# EAGLE library part MCP47CVB*2 (library bschulz)
MCP47CVBx2 - 8/10/12 Bit, Dual Channel, Digital to Analog Converter Characteristics: VCC: 1.8~5.5V IQ: 500μA (On), 0.65μA (Shutdown) Operating Temperature: -40°C to 125°C Number of Outputs: 2 Settling Time: 16μs Number of Bits: 8 (MCP47CVB02), 10 (MCP47CVB12), 12 (MCP47CVB22) Digikey: MCP47CVB22-E/MF-ND (MCP47CVB22, DFN) <https://www.digikey.com/product-detail/en/microchip-technology/MCP47CVB22-E-MF/MCP47CVB22-E-MF-ND/9657690> MCP47CVB22-E/UN-ND (MCP47CVB22, MSOP) <https://www.digikey.com/product-detail/en/microchip-technology/MCP47CVB22-E-UN/MCP47CVB22-E-UN-ND/9657693>
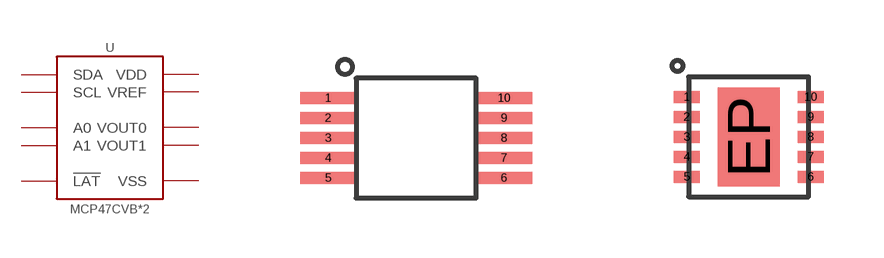
[diagram p89: symbol with the pads of MSOP_10; footprints MSOP_10, DFN_10_3X3]

Designator prefix U

## MCP47CVB2MSOP, MCP47CVB02MSOP, MCP47CVB12MSOP, MCP47CVB22MSOP (DIGIKEY: MCP47CVB22-E/UN-ND; MF: Microchip; MPN: MCP47CVB22-E/UN)  [MSOP_10]
1  VDD  pwr
2  A0  in
3  VREF  pwr
4  VOUT0  out
5  VOUT1  out
6  !LAT  in
7  VSS  pwr
8  A1  in
9  SCL
10  SDA

## MCP47CVB2DFN (MF: Microchip), MCP47CVB02DFN (MF: Microchip), MCP47CVB12DFN (MF: Microchip), MCP47CVB22DFN (DIGIKEY: MCP47CVB22-E/MF-ND; MF: Microchip; MPN: MCP47CVB22-E/MF)  [DFN_10_3X3]
1  VDD  pwr
2  A0  in
3  VREF  pwr
4  VOUT0  out
5  VOUT1  out
6  !LAT  in
7  VSS  pwr
8  A1  in
9  SCL
10  SDA
EP  VSS  pwr

## Footprint MSOP_10 (pad centres in mm)
MSOP, 3x3mm, 0.5mm pitch
smd 1.4 x 0.3: 1 -2.2,1; 2 -2.2,0.5; 3 -2.2,0; 4 -2.2,-0.5; 5 -2.2,-1; 6 2.2,-1; 7 2.2,-0.5; 8 2.2,0; 9 2.2,0.5; 10 2.2,1

## Footprint DFN_10_3X3 (pad centres in mm)
DFN, 10 pos, 3x3mm, 0.5mm pitch
smd 0.65 x 0.3: 1 -1.55,1; 2 -1.55,0.5; 3 -1.55,0; 4 -1.55,-0.5; 5 -1.55,-1; 6 1.55,-1; 7 1.55,-0.5; 8 1.55,0; 9 1.55,0.5; 10 1.55,1
smd 1.55 x 2.48: EP 0,0